# Altium footprint library MJ54&78_Main_V1.3.PcbLib: 53 footprints (part 4 of 4)
Each footprint in its own frame and in the unit in brackets; x right, y up, seen from the top. Pads: shape width x height; smd on the part's side, far side on the other; paste and mask are expansions set on the pad; w line width, h text height; cw(c..) or ccw(c..) is an arc to the next point about the centre after c.
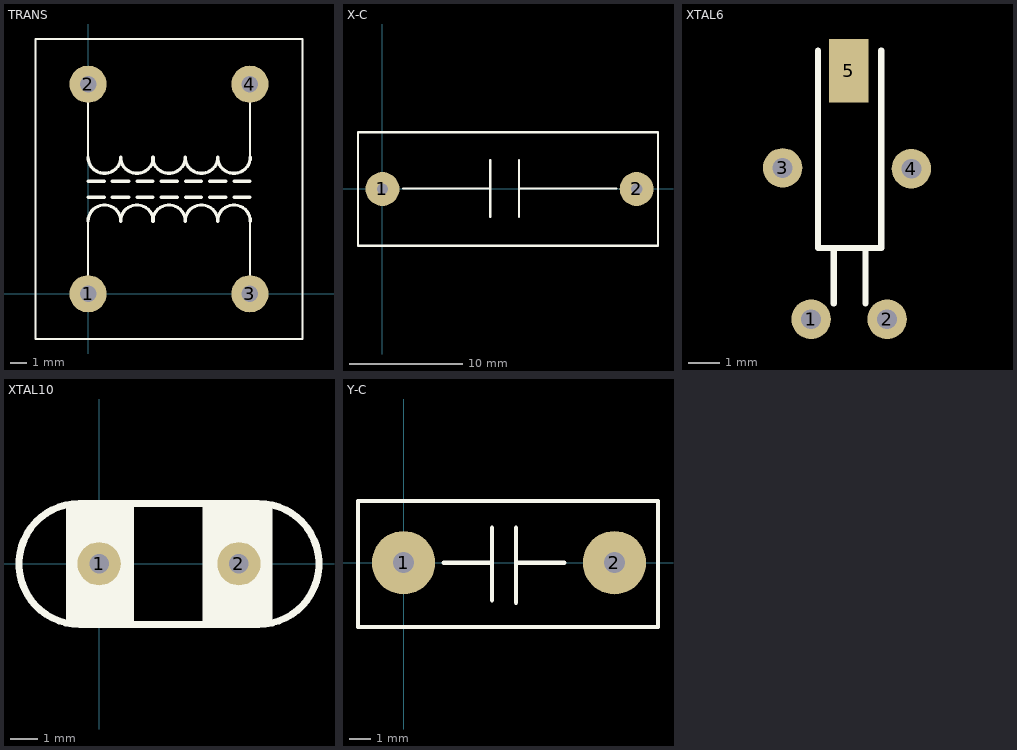
[diagram p3: the footprints below, top view; thin cyan lines are the x and y axes]

## TRANS [mm]
pads (4):
  round 2.3 hole 1.016: 1(0,0) 2(0,12.954) 3(10.008,0) 4(10.008,12.954)
Top Overlay:
  lines w0.127: -3.251,-2.794 -3.251,-1.524 -3.251,14.351 -3.251,15.748 -2.997,15.748 ; -3.226,-2.794 -1.473,-2.794 11.532,-2.794 ; -3.124,15.748 -1.219,15.748 11.786,15.748 ; 0,-0.025 0,2.464 0,4.47 ; 0,8.458 0,9.957 0,12.471 ; 5.004,-2.794 13.259,-2.794 13.259,-1.524 13.259,14.097 13.259,15.748 13.132,15.748 11.608,15.748 ; 10.008,-0.025 10.008,2.464 10.008,4.47 ; 10.008,8.458 10.008,9.957 10.008,12.471
  lines w0.203: 0,4.47 cw(c1.016,4.47) 2.032,4.47 ; 0,5.969 1.016,5.969 ; 0,6.96 1.016,6.96 ; 0,8.458 ccw(c1.016,8.458) 2.032,8.458 ; 1.499,5.969 2.515,5.969 ; 1.499,6.96 2.515,6.96 ; 2.007,4.47 cw(c3.023,4.47) 4.039,4.47 ; 2.007,8.458 ccw(c3.023,8.458) 4.039,8.458 ; 3.023,5.969 4.013,5.969 ; 3.023,6.96 4.013,6.96 ; 3.988,4.47 cw(c5.004,4.47) 6.02,4.47 ; 3.988,8.458 ccw(c5.004,8.458) 6.02,8.458 ; 4.521,5.969 5.512,5.969 ; 4.521,6.96 5.512,6.96 ; 5.994,4.47 cw(c7.01,4.47) 8.026,4.47 ; 5.994,8.458 ccw(c7.01,8.458) 8.026,8.458 ; 6.02,5.969 7.01,5.969 ; 6.02,6.96 7.01,6.96 ; 7.518,5.969 8.509,5.969 ; 7.518,6.96 8.509,6.96 ; 8.001,4.47 cw(c9.017,4.47) 10.033,4.47 ; 8.001,8.458 ccw(c9.017,8.458) 10.033,8.458 ; 9.017,5.969 10.008,5.969 ; 9.017,6.96 10.008,6.96

## X-C [mm]
pads (2):
  round 3 hole 1: 1(0,0) 2(22.45,0)
Top Overlay:
  lines w0.203: 1.818,0.04 9.525,0.04 ; 9.525,-2.46 9.525,2.54 ; 12.065,-2.46 12.065,2.54 ; 12.065,0.04 20.661,0.04 ; -2.161,-5 -2.161,5 24.339,5 24.339,-5 -2.161,-5

## XTAL6 [mm]
pads (5):
  round 1.27 hole 0.635: 1(558.8,-203.2) 2(561.24,-203.2) 3(557.883,-198.339) 4(562.023,-198.364)
  rect 1.27x2.032 smd: 5(560.017,-195.214)
Top Overlay:
  lines w0.2: 559.021,-194.564 559.021,-200.914 561.053,-200.914 561.053,-194.564 ; 559.529,-202.692 559.529,-200.914 ; 560.545,-202.692 560.545,-200.914

## XTAL10 [mil]
pads (2):
  round 62 hole 28: 1(0,0) 2(200,0)
Top Overlay:
  rectangle: -47.1,-87.13 49.9,81.1
  rectangle: 147.9,-85.9 247.9,85.1
  lines w10: -29,86 228,86 ; -27.98,86.42 ccw(c-27.98,-0.2) -27.98,-86.81 229.02,-86.81 ; 227.92,-86.81 ccw(c227.92,-0.2) 227.92,86.42

## Y-C [mm]
pads (2):
  round 3 hole 1: 1(0,0) 2(10,0)
Top Overlay:
  lines w0.203: 1.905,0 4.064,0 ; 4.191,-1.778 4.191,1.651 ; 5.334,-1.905 5.334,1.651 ; 5.334,0 7.62,0 ; -2.161,-3.048 12.065,-3.048 12.065,2.921 -2.161,2.921 -2.161,-3.048